# Altium schematic symbol library SI2301CDS-T1-GE3.SchLib: 1 symbol
Pins are listed as number, name and electrical type; pins without a type are passive.

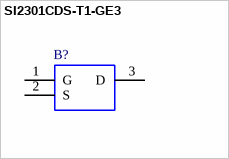
[diagram p0: symbol SI2301CDS-T1-GE3]

## SI2301CDS-T1-GE3
designator B?
SI2301CDS-T1-GE3, P-channel MOSFET Transistor 2.3 A 20 V, 3-Pin SOT-23, TO-236; Manufacturer_Name: Vishay; Geometry.Height: 1.12mm; Mouser Part Number: 781-SI2301CDS-T1-GE3; Mouser Price/Stock: https://www.mouser.co.uk/ProductDetail/Vishay-Semiconductors/SI2301CDS-T1-GE3?qs=IRuQNBqMOcnWEzfGi6KYYw%3D%3D; Manufacturer_Part_Number: SI2301CDS-T1-GE3; Datasheet Link: http://www.vishay.com/docs/68741/si2301cd.pdf
footprint SOT95P237X112-3N
pins: 1 G, 2 S, 3 D